# Altium schematic symbol library WR-DC.SchLib: 12 symbols
Pins are listed as number, name and electrical type; pins without a type are passive.

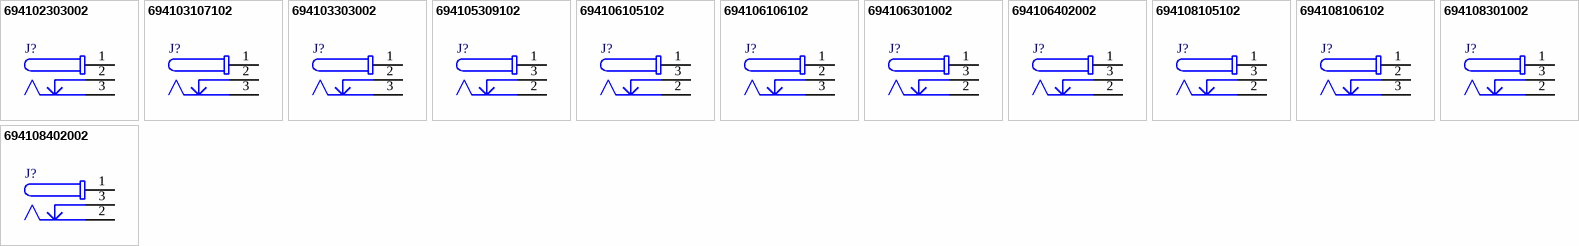
[diagram p0: symbols 694102303002 to 694108402002]

## 694102303002
designator J?  (value not drawn)
WR-DC Power Jack, THT, Right Angled, Center Pin 1mm, 2A, 24V (DC); Manufacturer: Wurth Elektronik; Plug Outer Diameter: 3.5mm; Manufacturer Part Number: 694102303002; Category: DC Power Jack Connector; Match Code: WR-DC; ComponentLink1Description: Website Link; ComponentLink1URL: https://www.we-online.com/redexpert/article/694102303002?ad; ComponentLink2Description: Datasheet Link; ComponentLink2URL: https://www.we-online.com/redexpert/spec/694102303002?ad; Mount: Through Hole; Min Operating Temperature: -40°C; Max Operating Temperature: 85°C; Packaging: Bag; Rated Current: 2A; Center Pin Diameter: 1mm; Orientation: Right Angled; Working Voltage: 24V (DC)
footprint 694102303002
pins: 1, 2, 3

## 694103107102
designator J?  (value not drawn)
WR-DC Power Jack, SMT, Right Angled, Center Pin 1.3mm, 3A, 24V (DC); Manufacturer: Wurth Elektronik; Plug Outer Diameter: 3.5mm; Manufacturer Part Number: 694103107102; Category: DC Power Jack Connector; Match Code: WR-DC; ComponentLink1Description: Website Link; ComponentLink1URL: https://www.we-online.com/redexpert/article/694103107102?ad; ComponentLink2Description: Datasheet Link; ComponentLink2URL: https://www.we-online.com/redexpert/spec/694103107102?ad; Mount: Surface Mount; Min Operating Temperature: -40°C; Max Operating Temperature: 85°C; Packaging: Tape and Reel; Rated Current: 3A; Center Pin Diameter: 1.3mm; Orientation: Right Angled; Working Voltage: 24V (DC)
footprint 694103107102
pins: 1, 2, 3

## 694103303002
designator J?  (value not drawn)
WR-DC Power Jack, THT, Right Angled, Center Pin 1.3mm, 2A, 24V (DC); Manufacturer: Wurth Elektronik; Plug Outer Diameter: 3.5mm; Manufacturer Part Number: 694103303002; Category: DC Power Jack Connector; Match Code: WR-DC; ComponentLink1Description: Website Link; ComponentLink1URL: https://www.we-online.com/redexpert/article/694103303002?ad; ComponentLink2Description: Datasheet Link; ComponentLink2URL: https://www.we-online.com/redexpert/spec/694103303002?ad; Mount: Through Hole; Min Operating Temperature: -40°C; Max Operating Temperature: 85°C; Packaging: Bag; Rated Current: 2A; Center Pin Diameter: 1.3mm; Orientation: Right Angled; Working Voltage: 24V (DC)
footprint 694103303002
pins: 1, 2, 3

## 694105309102
designator J?  (value not drawn)
WR-DC Power Jack, THR, Right Angled, Center Pin 1.65mm, 5.5A, 20V (DC); Manufacturer: Wurth Elektronik; Plug Outer Diameter: 4.75mm; Manufacturer Part Number: 694105309102; Category: DC Power Jack Connector; Match Code: WR-DC; ComponentLink1Description: Website Link; ComponentLink1URL: https://www.we-online.com/redexpert/article/694105309102?ad; ComponentLink2Description: Datasheet Link; ComponentLink2URL: https://www.we-online.com/redexpert/spec/694105309102?ad; Mount: Through Hole Reflow; Min Operating Temperature: -40°C; Max Operating Temperature: 85°C; Packaging: Tape and Reel; Rated Current: 5.5A; Center Pin Diameter: 1.65mm; Orientation: Right Angled; Working Voltage: 20V (DC)
footprint 694105309102
pins: 1, 2, 3

## 694106105102
designator J?  (value not drawn)
WR-DC Power Jack, SMT, Right Angled, Center Pin 2mm, 5A, 24V (DC); Manufacturer: Wurth Elektronik; Plug Outer Diameter: 5.5mm; Manufacturer Part Number: 694106105102; Category: DC Power Jack Connector; Match Code: WR-DC; ComponentLink1Description: Website Link; ComponentLink1URL: https://www.we-online.com/redexpert/article/694106105102?ad; ComponentLink2Description: Datasheet Link; ComponentLink2URL: https://www.we-online.com/redexpert/spec/694106105102?ad; Mount: Surface Mount; Min Operating Temperature: -40°C; Max Operating Temperature: 85°C; Packaging: Tape and Reel; Rated Current: 5A; Center Pin Diameter: 2mm; Orientation: Right Angled; Working Voltage: 24V (DC)
footprint 694106105102
pins: 1, 2, 3

## 694106106102
designator J?  (value not drawn)
WR-DC Power Jack, SMT, Right Angled, Center Pin 2mm, 5A, 24V (DC); Manufacturer: Wurth Elektronik; Plug Outer Diameter: 5.5mm; Manufacturer Part Number: 694106106102; Category: DC Power Jack Connector; Match Code: WR-DC; ComponentLink1Description: Website Link; ComponentLink1URL: https://www.we-online.com/redexpert/article/694106106102?ad; ComponentLink2Description: Datasheet Link; ComponentLink2URL: https://www.we-online.com/redexpert/spec/694106106102?ad; Mount: Surface Mount; Min Operating Temperature: -40°C; Max Operating Temperature: 85°C; Packaging: Tape and Reel; Rated Current: 5A; Center Pin Diameter: 2mm; Orientation: Right Angled; Working Voltage: 24V (DC)
footprint 694106106102
pins: 1, 2, 3

## 694106301002
designator J?  (value not drawn)
WR-DC Power Jack, THT, Right Angled, Center Pin 2mm, 5A, 30V (DC); Manufacturer: Wurth Elektronik; Plug Outer Diameter: 5.5mm; Manufacturer Part Number: 694106301002; Category: DC Power Jack Connector; Match Code: WR-DC; ComponentLink1Description: Website Link; ComponentLink1URL: https://www.we-online.com/redexpert/article/694106301002?ad; ComponentLink2Description: Datasheet Link; ComponentLink2URL: https://www.we-online.com/redexpert/spec/694106301002?ad; Mount: Through Hole; Min Operating Temperature: -40°C; Max Operating Temperature: 85°C; Packaging: Bag; Rated Current: 5A; Center Pin Diameter: 2mm; Orientation: Right Angled; Working Voltage: 30V (DC)
footprint 694106301002
pins: 1, 2, 3

## 694106402002
designator J?  (value not drawn)
WR-DC Power Jack, THT, Vertical, Center Pin 2mm, 3A, 30V (DC); Manufacturer: Wurth Elektronik; Plug Outer Diameter: 5.5mm; Manufacturer Part Number: 694106402002; Category: DC Power Jack Connector; Match Code: WR-DC; ComponentLink1Description: Website Link; ComponentLink1URL: https://www.we-online.com/redexpert/article/694106402002?ad; ComponentLink2Description: Datasheet Link; ComponentLink2URL: https://www.we-online.com/redexpert/spec/694106402002?ad; Mount: Through Hole; Min Operating Temperature: -40°C; Max Operating Temperature: 85°C; Packaging: Bag; Rated Current: 3A; Center Pin Diameter: 2mm; Orientation: Vertical; Working Voltage: 30V (DC)
footprint 694106402002
pins: 1, 2, 3

## 694108105102
designator J?  (value not drawn)
WR-DC Power Jack, SMT, Right Angled, Center Pin 2.5mm, 5A, 24V (DC); Manufacturer: Wurth Elektronik; Plug Outer Diameter: 5.5mm; Manufacturer Part Number: 694108105102; Category: DC Power Jack Connector; Match Code: WR-DC; ComponentLink1Description: Website Link; ComponentLink1URL: https://www.we-online.com/redexpert/article/694108105102?ad; ComponentLink2Description: Datasheet Link; ComponentLink2URL: https://www.we-online.com/redexpert/spec/694108105102?ad; Mount: Surface Mount; Min Operating Temperature: -40°C; Max Operating Temperature: 85°C; Packaging: Tape and Reel; Rated Current: 5A; Center Pin Diameter: 2.5mm; Orientation: Right Angled; Working Voltage: 24V (DC)
footprint 694108105102
pins: 1, 2, 3

## 694108106102
designator J?  (value not drawn)
WR-DC Power Jack, SMT, Right Angled, Center Pin 2.5mm, 5A, 24V (DC); Manufacturer: Wurth Elektronik; Plug Outer Diameter: 5.5mm; Manufacturer Part Number: 694108106102; Category: DC Power Jack Connector; Match Code: WR-DC; ComponentLink1Description: Website Link; ComponentLink1URL: https://www.we-online.com/redexpert/article/694108106102?ad; ComponentLink2Description: Datasheet Link; ComponentLink2URL: https://www.we-online.com/redexpert/spec/694108106102?ad; Mount: Surface Mount; Min Operating Temperature: -40°C; Max Operating Temperature: 85°C; Packaging: Tape and Reel; Rated Current: 5A; Center Pin Diameter: 2.5mm; Orientation: Right Angled; Working Voltage: 24V (DC)
footprint 694108106102
pins: 1, 2, 3

## 694108301002
designator J?  (value not drawn)
WR-DC Power Jack, THT, Right Angled, Center Pin 2.5mm, 5A, 30V (DC); Manufacturer: Wurth Elektronik; Plug Outer Diameter: 5.5mm; Manufacturer Part Number: 694108301002; Category: DC Power Jack Connector; Match Code: WR-DC; ComponentLink1Description: Website Link; ComponentLink1URL: https://www.we-online.com/redexpert/article/694108301002?ad; ComponentLink2Description: Datasheet Link; ComponentLink2URL: https://www.we-online.com/redexpert/spec/694108301002?ad; Mount: Through Hole; Min Operating Temperature: -40°C; Max Operating Temperature: 85°C; Packaging: Bag; Rated Current: 5A; Center Pin Diameter: 2.5mm; Orientation: Right Angled; Working Voltage: 30V (DC)
footprint 694108301002
pins: 1, 2, 3

## 694108402002
designator J?  (value not drawn)
WR-DC Power Jack, THT, Vertical, Center Pin 2.5mm, 3A, 30V (DC); Manufacturer: Wurth Elektronik; Plug Outer Diameter: 5.5mm; Manufacturer Part Number: 694108402002; Category: DC Power Jack Connector; Match Code: WR-DC; ComponentLink1Description: Website Link; ComponentLink1URL: https://www.we-online.com/redexpert/article/694108402002?ad; ComponentLink2Description: Datasheet Link; ComponentLink2URL: https://www.we-online.com/redexpert/spec/694108402002?ad; Mount: Through Hole; Min Operating Temperature: -40°C; Max Operating Temperature: 85°C; Packaging: Bag; Rated Current: 3A; Center Pin Diameter: 2.5mm; Orientation: Vertical; Working Voltage: 30V (DC)
footprint 694108402002
pins: 1, 2, 3